# Altium footprint library WE-CNSW HF.PcbLib: 2 footprints
Each footprint in its own frame and in the unit in brackets; x right, y up, seen from the top. Pads: shape width x height; smd on the part's side, far side on the other; paste and mask are expansions set on the pad; w line width, h text height; cw(c..) or ccw(c..) is an arc to the next point about the centre after c.
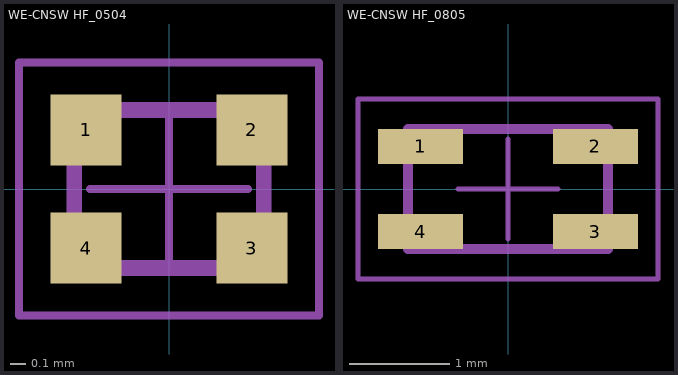
[diagram p0: the footprints below, top view; thin cyan lines are the x and y axes]

## WE-CNSW HF_0504 [mm] "SMT Common Mode  Line Filter, 4-Leads, body 1.20x1.00mm"
height 0.9
pads (4):
  rect 0.45x0.45 smd: 1(-0.525,0.375) 2(0.525,0.375) 3(0.525,-0.375) 4(-0.525,-0.375)
Top Designator:
  text ".Designator" at -2.499,-0.167 h0.5
Top Component Outline:
  lines w0.1: -0.6,-0.5 -0.6,0.5 0.6,0.5 0.6,-0.5 -0.6,-0.5
Top 3D Body:
  lines w0.1: -0.6,-0.5 -0.6,0.5 0.6,0.5 0.6,-0.5 -0.6,-0.5
Top Courtyard:
  lines w0.05: -0.5,0 0.5,0 ; 0,-0.5 0,0.5 ; -0.95,-0.8 -0.95,0.8 0.95,0.8 0.95,-0.8 -0.95,-0.8
3D body "7442335xxx_0504H.stp": height 0.9, standoff 0, extent -0.6,-0.5 0.6,0.5

## WE-CNSW HF_0805 [mm] "SMD Common  Mode Line Filter, 4-Leads, body 2.00x1.20mm"
height 1.2
pads (4):
  rect 0.85x0.35 smd: 1(-0.875,0.425) 2(0.875,0.425) 3(0.875,-0.425) 4(-0.875,-0.425)
Top Designator:
  text ".Designator" at -2.499,-0.167 h0.5
Top Component Outline:
  lines w0.1: -1,-0.6 1,-0.6 1,0.6 -1,0.6 -1,-0.6
Top 3D Body:
  lines w0.1: -1,-0.6 1,-0.6 1,0.6 -1,0.6 -1,-0.6
Top Courtyard:
  lines w0.05: -0.5,0 0.5,0 ; 0,-0.5 0,0.5 ; -1.5,-0.9 -1.5,0.9 1.5,0.9 1.5,-0.9 -1.5,-0.9
3D body "744233xxx.stp": height 1.21, standoff 0.01, extent -1,-0.6 1,0.6